# EAGLE library part ESP8266 (library ESP8266)
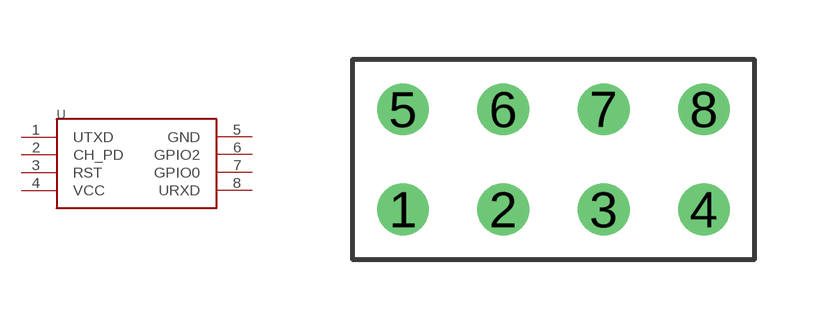
[diagram p0: symbol with the pads of ESP8266; footprint ESP8266]

Designator prefix -

## ESP8266  [ESP8266]
1  UTXD
2  CH_PD
3  RST
4  VCC
5  GND
6  GPIO2
7  GPIO0
8  URXD

## Footprint ESP8266 (pad centres in mm)
drill 0.8: 1 0,0; 2 2.54,0; 3 5.08,0; 4 7.62,0; 5 0,2.54; 6 2.54,2.54; 7 5.08,2.54; 8 7.62,2.54